# EAGLE library part STM8-903 (library microcodes)
STM8S903K3 SDIP32
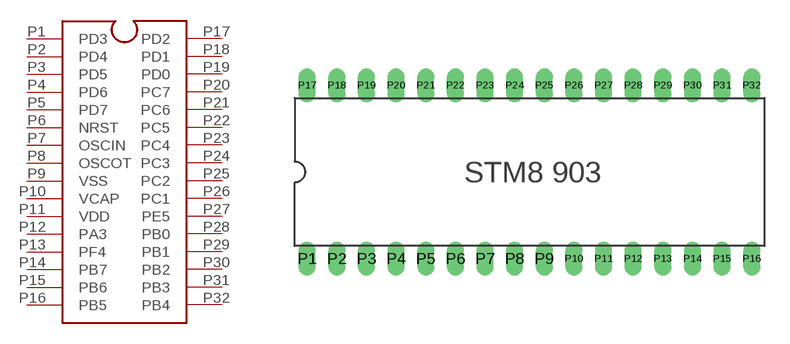
[diagram p0: symbol with the pads of SDIP-32; footprint SDIP-32]

Designator prefix STM8-903

## STM8-903SDIP-32  [SDIP-32]
P1  PD3
P2  PD4
P3  PD5
P4  PD6
P5  PD7
P6  NRST
P7  OSCIN  in
P8  OSCOT  out
P9  VSS  out
P10  VCAP  in
P11  VDD  pwr
P12  PA3
P13  PF4
P14  PB7
P15  PB6
P16  PB5
P17  PD2
P18  PD1
P19  PD0
P20  PC7
P21  PC6
P22  PC5
P23  PC4
P24  PC3
P25  PC2
P26  PC1
P27  PE5
P28  PB0
P29  PB1
P30  PB2
P31  PB3
P32  PB4

## Footprint SDIP-32 (pad centres in mm)
SDIP32
drill 0.5 pad 0.508 long: P1 -22.098,-5.842; P2 -20.32,-5.842; P3 -18.542,-5.842; P4 -16.764,-5.842; P5 -14.986,-5.842; P6 -13.208,-5.842; P7 -11.43,-5.842; P8 -9.652,-5.842; P9 -7.874,-5.842; P10 -6.096,-5.842; P11 -4.318,-5.842; P12 -2.54,-5.842; P13 -0.762,-5.842; P14 1.016,-5.842; P15 2.794,-5.842; P16 4.572,-5.842; P17 -22.098,4.572; P18 -20.32,4.572; P19 -18.542,4.572; P20 -16.764,4.572; P21 -14.986,4.572; P22 -13.208,4.572; P23 -11.43,4.572; P24 -9.652,4.572; P25 -7.874,4.572; P26 -6.096,4.572; P27 -4.318,4.572; P28 -2.54,4.572; P29 -0.762,4.572; P30 1.016,4.572; P31 2.794,4.572; P32 4.572,4.572